# Altium footprint library HARWIN SMD.PcbLib: 13 footprints
Each footprint in its own frame and in the unit in brackets; x right, y up, seen from the top. Pads: shape width x height; smd on the part's side, far side on the other; paste and mask are expansions set on the pad; w line width, h text height; cw(c..) or ccw(c..) is an arc to the next point about the centre after c.
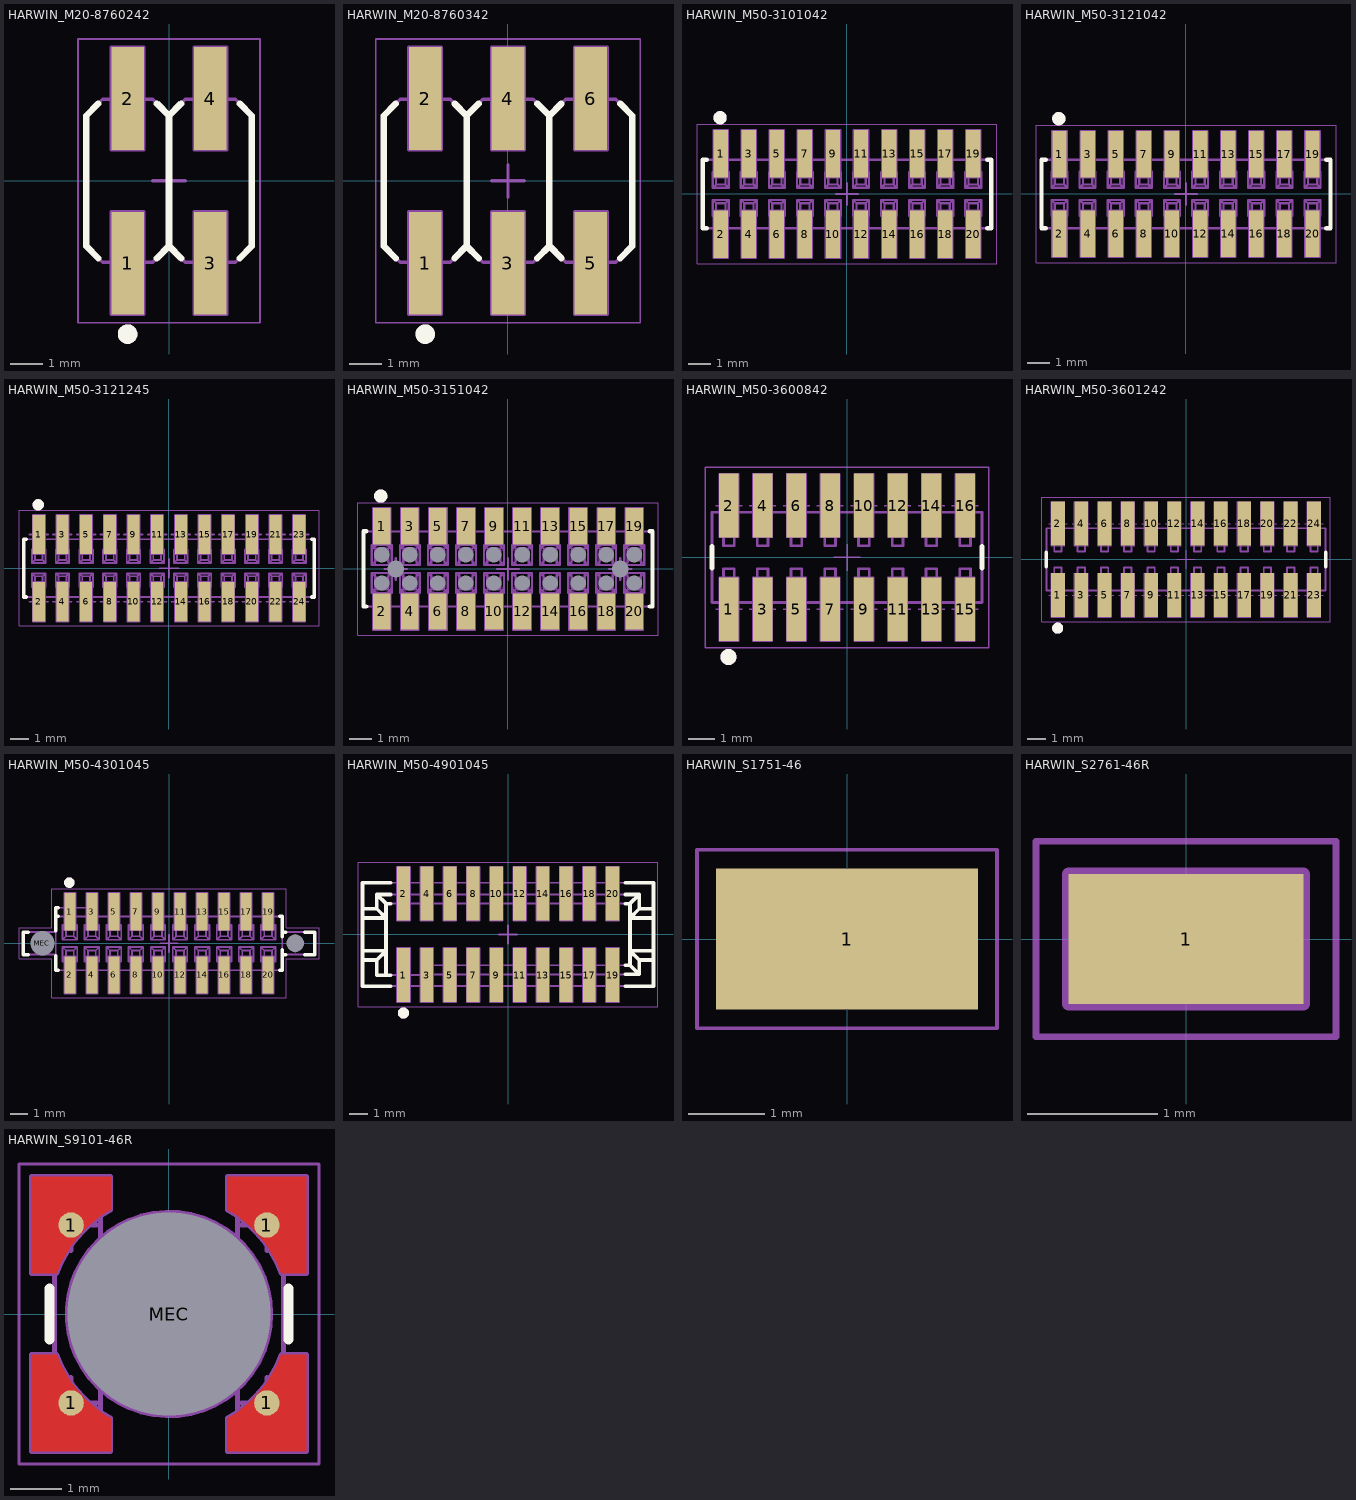
[diagram p0: the footprints below, top view; thin cyan lines are the x and y axes]

## HARWIN_M20-8760242 [mm] "4 Contacts - Pitch 2.54mm - Dual Row SMT Straight Header (Post Lead = 6mm, 3.05mm, Insulator 2.54mm)"
height 10
pads (4):
  rect 1x3.15 smd: 1(-1.27,-2.525) 2(-1.27,2.525) 3(1.27,-2.525) 4(1.27,2.525)
Top Overlay:
  circle w0.3: c-1.27,-4.7 r0.15
  lines w0.2: -2.17,-2.37 -2.54,-2 -2.54,2 -2.17,2.37 ; -0.37,-2.37 0,-2 ; -0.37,2.37 0,2 ; 0.37,-2.37 0,-2 ; 0.37,2.37 0,2 ; 2.17,-2.37 2.54,-2 2.54,2 2.17,2.37 ; 0,-2 0,2
Mechanical 8:
  lines w0.1: -1.77,-2.525 -1.27,-2.525 ; -1.77,2.525 -1.27,2.525 ; -1.27,-3.025 -1.27,-2.525 ; -1.27,-2.025 -1.27,-2.525 ; -1.27,2.025 -1.27,2.525 ; -1.27,3.025 -1.27,2.525 ; -0.77,-2.525 -1.27,-2.525 ; -0.77,2.525 -1.27,2.525 ; -0.5,0 0,0 ; 0,-0.5 0,0 ; 0,0.5 0,0 ; 0.5,0 0,0 ; 0.77,-2.525 1.27,-2.525 ; 0.77,2.525 1.27,2.525 ; 1.27,-3.025 1.27,-2.525 ; 1.27,-2.025 1.27,-2.525 ; 1.27,2.025 1.27,2.525 ; 1.27,3.025 1.27,2.525 ; 1.77,-2.525 1.27,-2.525 ; 1.77,2.525 1.27,2.525 ; -1.77,-4.1 -1.77,-0.95 -0.77,-0.95 -0.77,-4.1 -1.77,-4.1 ; -1.77,0.95 -0.77,0.95 -0.77,4.1 -1.77,4.1 -1.77,0.95 ; 0.77,-4.1 0.77,-0.95 1.77,-0.95 1.77,-4.1 0.77,-4.1 ; 0.77,0.95 1.77,0.95 1.77,4.1 0.77,4.1 0.77,0.95
Mechanical 14:
  circle w0.3: c-1.27,-4.7 r0.15
  lines w0.1: -1.59,-2.5 -1.59,-3.262 ; -1.59,2.5 -1.59,3.262 ; -0.95,-2.5 -0.95,-3.262 ; -0.95,2.5 -0.95,3.262 ; 0.95,-2.5 0.95,-3.262 ; 0.95,2.5 0.95,3.262 ; 1.59,-2.5 1.59,-3.262 ; 1.59,2.5 1.59,3.262 ; -1.59,-3.262 -0.95,-3.262 ; -1.59,-3.262 -1.395,-3.6 -1.145,-3.6 -0.95,-3.262 ; -1.59,3.262 -0.95,3.262 ; -1.59,3.262 -1.395,3.6 -1.145,3.6 -0.95,3.262 ; -1.589,-1.589 -1.395,-1.395 ; -1.589,-1.589 -1.589,-0.951 ; -1.589,-1.589 -0.951,-1.589 ; -1.589,-0.951 -1.395,-1.145 ; -1.589,-0.951 -0.951,-0.951 ; -1.589,0.951 -1.395,1.145 ; -1.589,0.951 -1.589,1.589 ; -1.589,0.951 -0.951,0.951 ; -1.589,1.589 -1.395,1.395 ; -1.589,1.589 -0.951,1.589 ; -1.395,-1.395 -1.395,-1.145 ; -1.395,-1.395 -1.145,-1.395 ; -1.395,-1.145 -1.145,-1.145 ; -1.395,1.145 -1.395,1.395 ; -1.395,1.145 -1.145,1.145 ; -1.395,1.395 -1.145,1.395 ; -1.145,-1.395 -0.951,-1.589 ; -1.145,-1.395 -1.145,-1.145 ; -1.145,-1.145 -0.951,-0.951 ; -1.145,1.145 -0.951,0.951 ; -1.145,1.145 -1.145,1.395 ; -1.145,1.395 -0.951,1.589 ; -0.951,-1.589 -0.951,-0.951 ; -0.951,0.951 -0.951,1.589 ; 0,-2 0,2 ; 0,-2 -0.5,-2.5 -2.04,-2.5 -2.54,-2 -2.54,2 -2.04,2.5 -0.5,2.5 0,2 ; 0,-2 0.5,-2.5 2.04,-2.5 2.54,-2 2.54,2 2.04,2.5 0.5,2.5 0,2 ; 0.95,-3.262 1.59,-3.262 ; 0.95,-3.262 1.145,-3.6 1.395,-3.6 1.59,-3.262 ; 0.95,3.262 1.59,3.262 ; 0.95,3.262 1.145,3.6 1.395,3.6 1.59,3.262 ; 0.951,-1.589 1.145,-1.395 ; 0.951,-1.589 0.951,-0.951 ; 0.951,-1.589 1.589,-1.589 ; 0.951,-0.951 1.145,-1.145 ; 0.951,-0.951 1.589,-0.951 ; 0.951,0.951 1.145,1.145 ; 0.951,0.951 0.951,1.589 ; 0.951,0.951 1.589,0.951 ; 0.951,1.589 1.145,1.395 ; 0.951,1.589 1.589,1.589 ; 1.145,-1.395 1.145,-1.145 ; 1.145,-1.395 1.395,-1.395 ; 1.145,-1.145 1.395,-1.145 ; 1.145,1.145 1.145,1.395 ; 1.145,1.145 1.395,1.145 ; 1.145,1.395 1.395,1.395 ; 1.395,-1.395 1.589,-1.589 ; 1.395,-1.395 1.395,-1.145 ; 1.395,-1.145 1.589,-0.951 ; 1.395,1.145 1.589,0.951 ; 1.395,1.145 1.395,1.395 ; 1.395,1.395 1.589,1.589 ; 1.589,-1.589 1.589,-0.951 ; 1.589,0.951 1.589,1.589
Mechanical 15:
  lines w0.05: -2.79,-4.35 2.79,-4.35 2.79,4.35 -2.79,4.35 -2.79,-4.35
3D body "HARWIN_M20-8760242.stp": height 9.93, standoff 0, extent -2.54,-3.6 2.54,3.6

## HARWIN_M20-8760342 [mm] "6 Contacts - Pitch 2.54mm - Dual Row SMT Straight Header (Post Lead = 6mm, 3.05mm, Insulator 2.54mm)"
height 10
pads (6):
  rect 1x3.15 smd: 1(-2.54,-2.525) 2(-2.54,2.525) 3(0,-2.525) 4(0,2.525) 5(2.54,-2.525) 6(2.54,2.525)
Top Overlay:
  circle w0.3: c-2.54,-4.7 r0.15
  lines w0.2: -3.44,-2.37 -3.81,-2 -3.81,2 -3.44,2.37 ; -1.64,-2.37 -1.27,-2 ; -1.64,2.37 -1.27,2 ; -0.9,-2.37 -1.27,-2 ; -0.9,2.37 -1.27,2 ; 0.9,-2.37 1.27,-2 ; 0.9,2.37 1.27,2 ; 1.64,-2.37 1.27,-2 ; 1.64,2.37 1.27,2 ; 3.44,-2.37 3.81,-2 3.81,2 3.44,2.37 ; -1.27,-2 -1.27,2 ; 1.27,-2 1.27,2
Mechanical 8:
  lines w0.1: -3.04,-2.525 -2.54,-2.525 ; -3.04,2.525 -2.54,2.525 ; -2.54,-3.025 -2.54,-2.525 ; -2.54,-2.025 -2.54,-2.525 ; -2.54,2.025 -2.54,2.525 ; -2.54,3.025 -2.54,2.525 ; -2.04,-2.525 -2.54,-2.525 ; -2.04,2.525 -2.54,2.525 ; -0.5,-2.525 0,-2.525 ; -0.5,0 0,0 ; -0.5,2.525 0,2.525 ; 0,-3.025 0,-2.525 ; 0,-2.025 0,-2.525 ; 0,-0.5 0,0 ; 0,0.5 0,0 ; 0,2.025 0,2.525 ; 0,3.025 0,2.525 ; 0.5,-2.525 0,-2.525 ; 0.5,0 0,0 ; 0.5,2.525 0,2.525 ; 2.04,-2.525 2.54,-2.525 ; 2.04,2.525 2.54,2.525 ; 2.54,-3.025 2.54,-2.525 ; 2.54,-2.025 2.54,-2.525 ; 2.54,2.025 2.54,2.525 ; 2.54,3.025 2.54,2.525 ; 3.04,-2.525 2.54,-2.525 ; 3.04,2.525 2.54,2.525 ; -3.04,-4.1 -3.04,-0.95 -2.04,-0.95 -2.04,-4.1 -3.04,-4.1 ; -3.04,0.95 -2.04,0.95 -2.04,4.1 -3.04,4.1 -3.04,0.95 ; -0.5,-4.1 -0.5,-0.95 0.5,-0.95 0.5,-4.1 -0.5,-4.1 ; -0.5,0.95 0.5,0.95 0.5,4.1 -0.5,4.1 -0.5,0.95 ; 2.04,-4.1 2.04,-0.95 3.04,-0.95 3.04,-4.1 2.04,-4.1 ; 2.04,0.95 3.04,0.95 3.04,4.1 2.04,4.1 2.04,0.95
Mechanical 14:
  circle w0.3: c-2.54,-4.7 r0.15
  lines w0.1: -2.86,-2.5 -2.86,-3.262 ; -2.86,2.5 -2.86,3.262 ; -2.22,-2.5 -2.22,-3.262 ; -2.22,2.5 -2.22,3.262 ; -0.32,-2.5 -0.32,-3.262 ; -0.32,2.5 -0.32,3.262 ; 0.32,-2.5 0.32,-3.262 ; 0.32,2.5 0.32,3.262 ; 2.22,-2.5 2.22,-3.262 ; 2.22,2.5 2.22,3.262 ; 2.86,-2.5 2.86,-3.262 ; 2.86,2.5 2.86,3.262 ; -2.86,-3.262 -2.22,-3.262 ; -2.86,-3.262 -2.665,-3.6 -2.415,-3.6 -2.22,-3.262 ; -2.86,3.262 -2.22,3.262 ; -2.86,3.262 -2.665,3.6 -2.415,3.6 -2.22,3.262 ; -2.859,-1.589 -2.665,-1.395 ; -2.859,-1.589 -2.859,-0.951 ; -2.859,-1.589 -2.221,-1.589 ; -2.859,-0.951 -2.665,-1.145 ; -2.859,-0.951 -2.221,-0.951 ; -2.859,0.951 -2.665,1.145 ; -2.859,0.951 -2.859,1.589 ; -2.859,0.951 -2.221,0.951 ; -2.859,1.589 -2.665,1.395 ; -2.859,1.589 -2.221,1.589 ; -2.665,-1.395 -2.665,-1.145 ; -2.665,-1.395 -2.415,-1.395 ; -2.665,-1.145 -2.415,-1.145 ; -2.665,1.145 -2.665,1.395 ; -2.665,1.145 -2.415,1.145 ; -2.665,1.395 -2.415,1.395 ; -2.415,-1.395 -2.221,-1.589 ; -2.415,-1.395 -2.415,-1.145 ; -2.415,-1.145 -2.221,-0.951 ; -2.415,1.145 -2.221,0.951 ; -2.415,1.145 -2.415,1.395 ; -2.415,1.395 -2.221,1.589 ; -2.221,-1.589 -2.221,-0.951 ; -2.221,0.951 -2.221,1.589 ; -1.27,-2 -1.27,2 ; -1.27,-2 -1.77,-2.5 -3.31,-2.5 -3.81,-2 -3.81,2 -3.31,2.5 -1.77,2.5 -1.27,2 ; -1.27,-2 -0.77,-2.5 0.77,-2.5 1.27,-2 ; -1.27,2 -0.77,2.5 0.77,2.5 1.27,2 ; -0.32,-3.262 0.32,-3.262 ; -0.32,-3.262 -0.125,-3.6 0.125,-3.6 0.32,-3.262 ; -0.32,3.262 0.32,3.262 ; -0.32,3.262 -0.125,3.6 0.125,3.6 0.32,3.262 ; -0.319,-1.589 -0.125,-1.395 ; -0.319,-1.589 -0.319,-0.951 ; -0.319,-1.589 0.319,-1.589 ; -0.319,-0.951 -0.125,-1.145 ; -0.319,-0.951 0.319,-0.951 ; -0.319,0.951 -0.125,1.145 ; -0.319,0.951 -0.319,1.589 ; -0.319,0.951 0.319,0.951 ; -0.319,1.589 -0.125,1.395 ; -0.319,1.589 0.319,1.589 ; -0.125,-1.395 -0.125,-1.145 ; -0.125,-1.395 0.125,-1.395 ; -0.125,-1.145 0.125,-1.145 ; -0.125,1.145 -0.125,1.395 ; -0.125,1.145 0.125,1.145 ; -0.125,1.395 0.125,1.395 ; 0.125,-1.395 0.319,-1.589 ; 0.125,-1.395 0.125,-1.145 ; 0.125,-1.145 0.319,-0.951 ; 0.125,1.145 0.319,0.951 ; 0.125,1.145 0.125,1.395 ; 0.125,1.395 0.319,1.589 ; 0.319,-1.589 0.319,-0.951 ; 0.319,0.951 0.319,1.589 ; 1.27,-2 1.27,2 ; 1.27,-2 1.77,-2.5 3.31,-2.5 3.81,-2 3.81,2 3.31,2.5 1.77,2.5 1.27,2 ; 2.22,-3.262 2.86,-3.262 ; 2.22,-3.262 2.415,-3.6 2.665,-3.6 2.86,-3.262 ; 2.22,3.262 2.86,3.262 ; 2.22,3.262 2.415,3.6 2.665,3.6 2.86,3.262 ; 2.221,-1.589 2.415,-1.395 ; 2.221,-1.589 2.221,-0.951 ; 2.221,-1.589 2.859,-1.589 ; 2.221,-0.951 2.415,-1.145 ; 2.221,-0.951 2.859,-0.951 ; 2.221,0.951 2.415,1.145 ; 2.221,0.951 2.221,1.589 ; 2.221,0.951 2.859,0.951 ; 2.221,1.589 2.415,1.395 ; 2.221,1.589 2.859,1.589 ; 2.415,-1.395 2.415,-1.145 ; 2.415,-1.395 2.665,-1.395 ; 2.415,-1.145 2.665,-1.145 ; 2.415,1.145 2.415,1.395 ; 2.415,1.145 2.665,1.145 ; 2.415,1.395 2.665,1.395 ; 2.665,-1.395 2.859,-1.589 ; 2.665,-1.395 2.665,-1.145 ; 2.665,-1.145 2.859,-0.951 ; 2.665,1.145 2.859,0.951 ; 2.665,1.145 2.665,1.395 ; 2.665,1.395 2.859,1.589 ; 2.859,-1.589 2.859,-0.951 ; 2.859,0.951 2.859,1.589
Mechanical 15:
  lines w0.05: -4.06,-4.35 4.06,-4.35 4.06,4.35 -4.06,4.35 -4.06,-4.35
3D body "HARWIN_M20-8760342.stp": height 9.93, standoff 0, extent -3.81,-3.6 3.81,3.6

## HARWIN_M50-3101042 [mm] "20 Contacts - Pitch 1.27mm - Dual Row SMT Vertical Socket"
height 4.85
pads (20):
  rect 0.65x2.15 smd: 1(-5.715,1.825) 2(-5.715,-1.825) 3(-4.445,1.825) 4(-4.445,-1.825) 5(-3.175,1.825) 6(-3.175,-1.825) 7(-1.905,1.825) 8(-1.905,-1.825) 9(-0.635,1.825) 10(-0.635,-1.825) 11(0.635,1.825) 12(0.635,-1.825) 13(1.905,1.825) 14(1.905,-1.825) 15(3.175,1.825) 16(3.175,-1.825) 17(4.445,1.825) 18(4.445,-1.825) 19(5.715,1.825) 20(5.715,-1.825)
Top Overlay:
  circle w0.3: c-5.745,3.45 r0.15
  lines w0.2: -6.34,-1.55 -6.525,-1.55 -6.525,1.55 -6.34,1.55 ; 6.34,-1.55 6.525,-1.55 6.525,1.55 6.34,1.55
Mechanical 8:
  lines w0.1: -0.5,0 0,0 ; 0,-0.5 0,0 ; 0,0.5 0,0 ; 0.5,0 0,0 ; -6.04,-2.9 -5.715,-1.825 -5.39,-2.9 ; -6.04,-2.9 -5.39,-2.9 ; -6.04,-2.9 -6.04,-0.75 -5.39,-0.75 -5.39,-2.9 ; -6.04,2.9 -5.715,1.825 -5.39,2.9 ; -6.04,2.9 -6.04,0.75 -5.39,0.75 -5.39,2.9 ; -6.04,2.9 -5.39,2.9 ; -4.77,-2.9 -4.445,-1.825 -4.12,-2.9 ; -4.77,-2.9 -4.12,-2.9 ; -4.77,-2.9 -4.77,-0.75 -4.12,-0.75 -4.12,-2.9 ; -4.77,2.9 -4.445,1.825 -4.12,2.9 ; -4.77,2.9 -4.77,0.75 -4.12,0.75 -4.12,2.9 ; -4.77,2.9 -4.12,2.9 ; -3.5,-2.9 -3.175,-1.825 -2.85,-2.9 ; -3.5,-2.9 -2.85,-2.9 ; -3.5,-2.9 -3.5,-0.75 -2.85,-0.75 -2.85,-2.9 ; -3.5,2.9 -3.175,1.825 -2.85,2.9 ; -3.5,2.9 -3.5,0.75 -2.85,0.75 -2.85,2.9 ; -3.5,2.9 -2.85,2.9 ; -2.23,-2.9 -1.905,-1.825 -1.58,-2.9 ; -2.23,-2.9 -1.58,-2.9 ; -2.23,-2.9 -2.23,-0.75 -1.58,-0.75 -1.58,-2.9 ; -2.23,2.9 -1.905,1.825 -1.58,2.9 ; -2.23,2.9 -2.23,0.75 -1.58,0.75 -1.58,2.9 ; -2.23,2.9 -1.58,2.9 ; -0.96,-2.9 -0.635,-1.825 -0.31,-2.9 ; -0.96,-2.9 -0.31,-2.9 ; -0.96,-2.9 -0.96,-0.75 -0.31,-0.75 -0.31,-2.9 ; -0.96,2.9 -0.635,1.825 -0.31,2.9 ; -0.96,2.9 -0.96,0.75 -0.31,0.75 -0.31,2.9 ; -0.96,2.9 -0.31,2.9 ; 0.31,-2.9 0.635,-1.825 0.96,-2.9 ; 0.31,-2.9 0.96,-2.9 ; 0.31,-2.9 0.31,-0.75 0.96,-0.75 0.96,-2.9 ; 0.31,2.9 0.635,1.825 0.96,2.9 ; 0.31,2.9 0.31,0.75 0.96,0.75 0.96,2.9 ; 0.31,2.9 0.96,2.9 ; 1.58,-2.9 1.905,-1.825 2.23,-2.9 ; 1.58,-2.9 2.23,-2.9 ; 1.58,-2.9 1.58,-0.75 2.23,-0.75 2.23,-2.9 ; 1.58,2.9 1.905,1.825 2.23,2.9 ; 1.58,2.9 1.58,0.75 2.23,0.75 2.23,2.9 ; 1.58,2.9 2.23,2.9 ; 2.85,-2.9 3.175,-1.825 3.5,-2.9 ; 2.85,-2.9 3.5,-2.9 ; 2.85,-2.9 2.85,-0.75 3.5,-0.75 3.5,-2.9 ; 2.85,2.9 3.175,1.825 3.5,2.9 ; 2.85,2.9 2.85,0.75 3.5,0.75 3.5,2.9 ; 2.85,2.9 3.5,2.9 ; 4.12,-2.9 4.445,-1.825 4.77,-2.9 ; 4.12,-2.9 4.77,-2.9 ; 4.12,-2.9 4.12,-0.75 4.77,-0.75 4.77,-2.9 ; 4.12,2.9 4.445,1.825 4.77,2.9 ; 4.12,2.9 4.12,0.75 4.77,0.75 4.77,2.9 ; 4.12,2.9 4.77,2.9 ; 5.39,-2.9 5.715,-1.825 6.04,-2.9 ; 5.39,-2.9 6.04,-2.9 ; 5.39,-2.9 5.39,-0.75 6.04,-0.75 6.04,-2.9 ; 5.39,2.9 5.715,1.825 6.04,2.9 ; 5.39,2.9 5.39,0.75 6.04,0.75 6.04,2.9 ; 5.39,2.9 6.04,2.9
Mechanical 14:
  drawing of 245 lines, arcs and shapes, not listed
Mechanical 15:
  lines w0.05: -6.775,-3.15 6.775,-3.15 6.775,3.15 -6.775,3.15 -6.775,-3.15
3D body "HARWIN_M50-3101042.stp": height 4.6, standoff 0, extent -6.525,-2.522 6.525,2.523

## HARWIN_M50-3121042 [mm] "20 Contacts - Pitch 1.27mm - Dual Row SMT Vertical Socket"
height 3.8
pads (20):
  rect 0.65x2.1 smd: 1(-5.715,1.8) 2(-5.715,-1.8) 3(-4.445,1.8) 4(-4.445,-1.8) 5(-3.175,1.8) 6(-3.175,-1.8) 7(-1.905,1.8) 8(-1.905,-1.8) 9(-0.635,1.8) 10(-0.635,-1.8) 11(0.635,1.8) 12(0.635,-1.8) 13(1.905,1.8) 14(1.905,-1.8) 15(3.175,1.8) 16(3.175,-1.8) 17(4.445,1.8) 18(4.445,-1.8) 19(5.715,1.8) 20(5.715,-1.8)
Top Overlay:
  circle w0.3: c-5.745,3.4 r0.15
  lines w0.2: -6.34,-1.55 -6.525,-1.55 -6.525,1.55 -6.34,1.55 ; 6.34,-1.55 6.525,-1.55 6.525,1.55 6.34,1.55
Mechanical 8:
  lines w0.1: -0.5,0 0,0 ; 0,-0.5 0,0 ; 0,0.5 0,0 ; 0.5,0 0,0 ; -6.04,-2.85 -6.04,-0.75 -5.39,-0.75 -5.39,-2.85 ; -6.04,-2.85 -5.39,-2.85 ; -6.04,-2.85 -5.715,-1.8 -5.39,-2.85 ; -6.04,2.85 -5.39,2.85 ; -6.04,2.85 -6.04,0.75 -5.39,0.75 -5.39,2.85 ; -6.04,2.85 -5.715,1.8 -5.39,2.85 ; -4.77,-2.85 -4.77,-0.75 -4.12,-0.75 -4.12,-2.85 ; -4.77,-2.85 -4.12,-2.85 ; -4.77,-2.85 -4.445,-1.8 -4.12,-2.85 ; -4.77,2.85 -4.12,2.85 ; -4.77,2.85 -4.77,0.75 -4.12,0.75 -4.12,2.85 ; -4.77,2.85 -4.445,1.8 -4.12,2.85 ; -3.5,-2.85 -3.5,-0.75 -2.85,-0.75 -2.85,-2.85 ; -3.5,-2.85 -2.85,-2.85 ; -3.5,-2.85 -3.175,-1.8 -2.85,-2.85 ; -3.5,2.85 -2.85,2.85 ; -3.5,2.85 -3.5,0.75 -2.85,0.75 -2.85,2.85 ; -3.5,2.85 -3.175,1.8 -2.85,2.85 ; -2.23,-2.85 -2.23,-0.75 -1.58,-0.75 -1.58,-2.85 ; -2.23,-2.85 -1.58,-2.85 ; -2.23,-2.85 -1.905,-1.8 -1.58,-2.85 ; -2.23,2.85 -1.58,2.85 ; -2.23,2.85 -2.23,0.75 -1.58,0.75 -1.58,2.85 ; -2.23,2.85 -1.905,1.8 -1.58,2.85 ; -0.96,-2.85 -0.96,-0.75 -0.31,-0.75 -0.31,-2.85 ; -0.96,-2.85 -0.31,-2.85 ; -0.96,-2.85 -0.635,-1.8 -0.31,-2.85 ; -0.96,2.85 -0.31,2.85 ; -0.96,2.85 -0.96,0.75 -0.31,0.75 -0.31,2.85 ; -0.96,2.85 -0.635,1.8 -0.31,2.85 ; 0.31,-2.85 0.31,-0.75 0.96,-0.75 0.96,-2.85 ; 0.31,-2.85 0.96,-2.85 ; 0.31,-2.85 0.635,-1.8 0.96,-2.85 ; 0.31,2.85 0.96,2.85 ; 0.31,2.85 0.31,0.75 0.96,0.75 0.96,2.85 ; 0.31,2.85 0.635,1.8 0.96,2.85 ; 1.58,-2.85 1.58,-0.75 2.23,-0.75 2.23,-2.85 ; 1.58,-2.85 2.23,-2.85 ; 1.58,-2.85 1.905,-1.8 2.23,-2.85 ; 1.58,2.85 2.23,2.85 ; 1.58,2.85 1.58,0.75 2.23,0.75 2.23,2.85 ; 1.58,2.85 1.905,1.8 2.23,2.85 ; 2.85,-2.85 2.85,-0.75 3.5,-0.75 3.5,-2.85 ; 2.85,-2.85 3.5,-2.85 ; 2.85,-2.85 3.175,-1.8 3.5,-2.85 ; 2.85,2.85 3.5,2.85 ; 2.85,2.85 2.85,0.75 3.5,0.75 3.5,2.85 ; 2.85,2.85 3.175,1.8 3.5,2.85 ; 4.12,-2.85 4.12,-0.75 4.77,-0.75 4.77,-2.85 ; 4.12,-2.85 4.77,-2.85 ; 4.12,-2.85 4.445,-1.8 4.77,-2.85 ; 4.12,2.85 4.77,2.85 ; 4.12,2.85 4.12,0.75 4.77,0.75 4.77,2.85 ; 4.12,2.85 4.445,1.8 4.77,2.85 ; 5.39,-2.85 5.39,-0.75 6.04,-0.75 6.04,-2.85 ; 5.39,-2.85 6.04,-2.85 ; 5.39,-2.85 5.715,-1.8 6.04,-2.85 ; 5.39,2.85 6.04,2.85 ; 5.39,2.85 5.39,0.75 6.04,0.75 6.04,2.85 ; 5.39,2.85 5.715,1.8 6.04,2.85
Mechanical 14:
  drawing of 245 lines, arcs and shapes, not listed
Mechanical 15:
  lines w0.05: -6.775,-3.1 6.775,-3.1 6.775,3.1 -6.775,3.1 -6.775,-3.1
3D body "HARWIN_M50-3121042.stp": height 3.6, standoff 0, extent -6.525,-2.25 6.525,2.25

## HARWIN_M50-3121245 [mm] "24 Contacts - Pitch 1.27mm - Dual Row SMT Vertical Socket"
height 3.8
pads (24):
  rect 0.65x2.1 smd: 1(-6.985,1.8) 2(-6.985,-1.8) 3(-5.715,1.8) 4(-5.715,-1.8) 5(-4.445,1.8) 6(-4.445,-1.8) 7(-3.175,1.8) 8(-3.175,-1.8) 9(-1.905,1.8) 10(-1.905,-1.8) 11(-0.635,1.8) 12(-0.635,-1.8) 13(0.635,1.8) 14(0.635,-1.8) 15(1.905,1.8) 16(1.905,-1.8) 17(3.175,1.8) 18(3.175,-1.8) 19(4.445,1.8) 20(4.445,-1.8) 21(5.715,1.8) 22(5.715,-1.8) 23(6.985,1.8) 24(6.985,-1.8)
Top Overlay:
  circle w0.3: c-7.015,3.4 r0.15
  lines w0.2: -7.66,-1.55 -7.795,-1.55 -7.795,1.55 -7.66,1.55 ; 7.66,-1.55 7.795,-1.55 7.795,1.55 7.66,1.55
Mechanical 8:
  drawing of 196 lines, arcs and shapes, not listed
Mechanical 14:
  drawing of 293 lines, arcs and shapes, not listed
Mechanical 15:
  lines w0.05: -8.045,-3.1 8.045,-3.1 8.045,3.1 -8.045,3.1 -8.045,-3.1
3D body "HARWIN_M50-3121245.stp": height 3.6, standoff 0, extent -7.795,-2.25 7.795,2.25

## HARWIN_M50-3151042 [mm] "20 Contacts - Pitch 1.27mm - Dual entry (Top or Bottom Entry), 2.2mm Height Dual Row SMT Socket  with Posts"
height 2.35
pads (42):
  rect 0.8x1.65 smd: 1(-5.715,1.925) 2(-5.715,-1.925) 3(-4.445,1.925) 4(-4.445,-1.925) 5(-3.175,1.925) 6(-3.175,-1.925) 7(-1.905,1.925) 8(-1.905,-1.925) 9(-0.635,1.925) 10(-0.635,-1.925) 11(0.635,1.925) 12(0.635,-1.925) 13(1.905,1.925) 14(1.905,-1.925) 15(3.175,1.925) 16(3.175,-1.925) 17(4.445,1.925) 18(4.445,-1.925) 19(5.715,1.925) 20(5.715,-1.925)
  round 0.5 hole 0.7 unplated mask+0.1: MECH(-5.715,-0.635) MECH(-5.715,0.635) MECH(-4.445,-0.635) MECH(-4.445,0.635) MECH(-3.175,-0.635) MECH(-3.175,0.635) MECH(-1.905,-0.635) MECH(-1.905,0.635) MECH(-0.635,-0.635) MECH(-0.635,0.635) MECH(0.635,-0.635) MECH(0.635,0.635) MECH(1.905,-0.635) MECH(1.905,0.635) MECH(3.175,-0.635) MECH(3.175,0.635) MECH(4.445,-0.635) MECH(4.445,0.635) MECH(5.715,-0.635) MECH(5.715,0.635)
  round 0.5 hole 0.75 unplated mask+0.125: MECH(-5.08,0) MECH(5.08,0)
Top Overlay:
  circle w0.3: c-5.76,3.3 r0.15
  lines w0.2: -6.415,-1.7 -6.54,-1.7 -6.54,1.7 -6.415,1.7 ; 6.415,-1.7 6.54,-1.7 6.54,1.7 6.415,1.7
Mechanical 8:
  drawing of 212 lines, arcs and shapes, not listed
Mechanical 14:
  drawing of 225 lines, arcs and shapes, not listed
Mechanical 15:
  lines w0.05: -6.79,-3 6.79,-3 6.79,3 -6.79,3 -6.79,-3
3D body "HARWIN_M50-3151042.stp": height 2.2, standoff -0.6, extent -6.54,-2.25 6.54,2.25

## HARWIN_M50-3600842 [mm] "16 Contacts - Pitch 1.27mm - Dual Row SMT Vertical Pin Header"
height 5.13
pads (16):
  rect 0.74x2.4 smd: 1(-4.445,-1.95) 2(-4.445,1.95) 3(-3.175,-1.95) 4(-3.175,1.95) 5(-1.905,-1.95) 6(-1.905,1.95) 7(-0.635,-1.95) 8(-0.635,1.95) 9(0.635,-1.95) 10(0.635,1.95) 11(1.905,-1.95) 12(1.905,1.95) 13(3.175,-1.95) 14(3.175,1.95) 15(4.445,-1.95) 16(4.445,1.95)
Top Overlay:
  circle w0.3: c-4.46,-3.75 r0.15
  lines w0.2: -5.08,-0.4 -5.08,0.4 ; 5.08,-0.4 5.08,0.4
Mechanical 8:
  lines w0.05: -4.945,-1.95 -4.445,-1.95 ; -4.945,1.95 -4.445,1.95 ; -4.445,-2.45 -4.445,-1.95 ; -4.445,-1.45 -4.445,-1.95 ; -4.445,1.45 -4.445,1.95 ; -4.445,2.45 -4.445,1.95 ; -3.945,-1.95 -4.445,-1.95 ; -3.945,1.95 -4.445,1.95 ; -3.675,-1.95 -3.175,-1.95 ; -3.675,1.95 -3.175,1.95 ; -3.175,-2.45 -3.175,-1.95 ; -3.175,-1.45 -3.175,-1.95 ; -3.175,1.45 -3.175,1.95 ; -3.175,2.45 -3.175,1.95 ; -2.675,-1.95 -3.175,-1.95 ; -2.675,1.95 -3.175,1.95 ; -2.405,-1.95 -1.905,-1.95 ; -2.405,1.95 -1.905,1.95 ; -1.905,-2.45 -1.905,-1.95 ; -1.905,-1.45 -1.905,-1.95 ; -1.905,1.45 -1.905,1.95 ; -1.905,2.45 -1.905,1.95 ; -1.405,-1.95 -1.905,-1.95 ; -1.405,1.95 -1.905,1.95 ; -1.135,-1.95 -0.635,-1.95 ; -1.135,1.95 -0.635,1.95 ; -0.635,-2.45 -0.635,-1.95 ; -0.635,-1.45 -0.635,-1.95 ; -0.635,1.45 -0.635,1.95 ; -0.635,2.45 -0.635,1.95 ; -0.5,0 0,0 ; -0.135,-1.95 -0.635,-1.95 ; -0.135,1.95 -0.635,1.95 ; 0,-0.5 0,0 ; 0,0.5 0,0 ; 0.135,-1.95 0.635,-1.95 ; 0.135,1.95 0.635,1.95 ; 0.5,0 0,0 ; 0.635,-2.45 0.635,-1.95 ; 0.635,-1.45 0.635,-1.95 ; 0.635,1.45 0.635,1.95 ; 0.635,2.45 0.635,1.95 ; 1.135,-1.95 0.635,-1.95 ; 1.135,1.95 0.635,1.95 ; 1.405,-1.95 1.905,-1.95 ; 1.405,1.95 1.905,1.95 ; 1.905,-2.45 1.905,-1.95 ; 1.905,-1.45 1.905,-1.95 ; 1.905,1.45 1.905,1.95 ; 1.905,2.45 1.905,1.95 ; 2.405,-1.95 1.905,-1.95 ; 2.405,1.95 1.905,1.95 ; 2.675,-1.95 3.175,-1.95 ; 2.675,1.95 3.175,1.95 ; 3.175,-2.45 3.175,-1.95 ; 3.175,-1.45 3.175,-1.95 ; 3.175,1.45 3.175,1.95 ; 3.175,2.45 3.175,1.95 ; 3.675,-1.95 3.175,-1.95 ; 3.675,1.95 3.175,1.95 ; 3.945,-1.95 4.445,-1.95 ; 3.945,1.95 4.445,1.95 ; 4.445,-2.45 4.445,-1.95 ; 4.445,-1.45 4.445,-1.95 ; 4.445,1.45 4.445,1.95 ; 4.445,2.45 4.445,1.95 ; 4.945,-1.95 4.445,-1.95 ; 4.945,1.95 4.445,1.95 ; -4.815,-3.15 -4.815,-0.75 -4.075,-0.75 -4.075,-3.15 -4.815,-3.15 ; -4.815,0.75 -4.815,3.15 -4.075,3.15 -4.075,0.75 -4.815,0.75 ; -3.545,-3.15 -3.545,-0.75 -2.805,-0.75 -2.805,-3.15 -3.545,-3.15 ; -3.545,0.75 -3.545,3.15 -2.805,3.15 -2.805,0.75 -3.545,0.75 ; -2.275,-3.15 -2.275,-0.75 -1.535,-0.75 -1.535,-3.15 -2.275,-3.15 ; -2.275,0.75 -2.275,3.15 -1.535,3.15 -1.535,0.75 -2.275,0.75 ; -1.005,-3.15 -1.005,-0.75 -0.265,-0.75 -0.265,-3.15 -1.005,-3.15 ; -1.005,0.75 -1.005,3.15 -0.265,3.15 -0.265,0.75 -1.005,0.75 ; 0.265,-3.15 0.265,-0.75 1.005,-0.75 1.005,-3.15 0.265,-3.15 ; 0.265,0.75 0.265,3.15 1.005,3.15 1.005,0.75 0.265,0.75 ; 1.535,-3.15 1.535,-0.75 2.275,-0.75 2.275,-3.15 1.535,-3.15 ; 1.535,0.75 1.535,3.15 2.275,3.15 2.275,0.75 1.535,0.75 ; 2.805,-3.15 2.805,-0.75 3.545,-0.75 3.545,-3.15 2.805,-3.15 ; 2.805,0.75 2.805,3.15 3.545,3.15 3.545,0.75 2.805,0.75 ; 4.075,-3.15 4.075,-0.75 4.815,-0.75 4.815,-3.15 4.075,-3.15 ; 4.075,0.75 4.075,3.15 4.815,3.15 4.815,0.75 4.075,0.75
Mechanical 14:
  circle w0.3: c-4.46,-3.75 r0.15
  lines w0.1: -5.08,-1.7 5.08,-1.7 5.08,1.7 -5.08,1.7 -5.08,-1.7 ; -4.645,-0.835 -4.245,-0.835 -4.245,-0.435 -4.645,-0.435 -4.645,-0.835 ; -4.645,0.435 -4.245,0.435 -4.245,0.835 -4.645,0.835 -4.645,0.435 ; -3.375,-0.835 -2.975,-0.835 -2.975,-0.435 -3.375,-0.435 -3.375,-0.835 ; -3.375,0.435 -2.975,0.435 -2.975,0.835 -3.375,0.835 -3.375,0.435 ; -2.105,-0.835 -1.705,-0.835 -1.705,-0.435 -2.105,-0.435 -2.105,-0.835 ; -2.105,0.435 -1.705,0.435 -1.705,0.835 -2.105,0.835 -2.105,0.435 ; -0.835,-0.835 -0.435,-0.835 -0.435,-0.435 -0.835,-0.435 -0.835,-0.835 ; -0.835,0.435 -0.435,0.435 -0.435,0.835 -0.835,0.835 -0.835,0.435 ; 0.435,-0.835 0.835,-0.835 0.835,-0.435 0.435,-0.435 0.435,-0.835 ; 0.435,0.435 0.835,0.435 0.835,0.835 0.435,0.835 0.435,0.435 ; 1.705,-0.835 2.105,-0.835 2.105,-0.435 1.705,-0.435 1.705,-0.835 ; 1.705,0.435 2.105,0.435 2.105,0.835 1.705,0.835 1.705,0.435 ; 2.975,-0.835 3.375,-0.835 3.375,-0.435 2.975,-0.435 2.975,-0.835 ; 2.975,0.435 3.375,0.435 3.375,0.835 2.975,0.835 2.975,0.435 ; 4.245,-0.835 4.645,-0.835 4.645,-0.435 4.245,-0.435 4.245,-0.835 ; 4.245,0.435 4.645,0.435 4.645,0.835 4.245,0.835 4.245,0.435
Mechanical 15:
  lines w0.05: -5.33,-3.4 5.33,-3.4 5.33,3.4 -5.33,3.4 -5.33,-3.4
3D body "HARWIN_M50-3600842.stp": height 4.68, standoff 0, extent -5.08,-2.75 5.08,2.75

## HARWIN_M50-3601242 [mm] "24 Contacts - Pitch 1.27mm - Dual Row SMT Vertical Pin Header"
height 5.13
pads (24):
  rect 0.74x2.4 smd: 1(-6.985,-1.95) 2(-6.985,1.95) 3(-5.715,-1.95) 4(-5.715,1.95) 5(-4.445,-1.95) 6(-4.445,1.95) 7(-3.175,-1.95) 8(-3.175,1.95) 9(-1.905,-1.95) 10(-1.905,1.95) 11(-0.635,-1.95) 12(-0.635,1.95) 13(0.635,-1.95) 14(0.635,1.95) 15(1.905,-1.95) 16(1.905,1.95) 17(3.175,-1.95) 18(3.175,1.95) 19(4.445,-1.95) 20(4.445,1.95) 21(5.715,-1.95) 22(5.715,1.95) 23(6.985,-1.95) 24(6.985,1.95)
Top Overlay:
  circle w0.3: c-7,-3.75 r0.15
  lines w0.2: -7.62,-0.4 -7.62,0.4 ; 7.62,-0.4 7.62,0.4
Mechanical 8:
  drawing of 196 lines, arcs and shapes, not listed
Mechanical 14:
  circle w0.3: c-7,-3.75 r0.15
  lines w0.1: -7.62,-1.7 -7.62,1.7 7.62,1.7 7.62,-1.7 -7.62,-1.7 ; -7.185,-0.835 -7.185,-0.435 -6.785,-0.435 -6.785,-0.835 -7.185,-0.835 ; -7.185,0.435 -7.185,0.835 -6.785,0.835 -6.785,0.435 -7.185,0.435 ; -5.915,-0.835 -5.915,-0.435 -5.515,-0.435 -5.515,-0.835 -5.915,-0.835 ; -5.915,0.435 -5.915,0.835 -5.515,0.835 -5.515,0.435 -5.915,0.435 ; -4.645,-0.835 -4.645,-0.435 -4.245,-0.435 -4.245,-0.835 -4.645,-0.835 ; -4.645,0.435 -4.645,0.835 -4.245,0.835 -4.245,0.435 -4.645,0.435 ; -3.375,-0.835 -3.375,-0.435 -2.975,-0.435 -2.975,-0.835 -3.375,-0.835 ; -3.375,0.435 -3.375,0.835 -2.975,0.835 -2.975,0.435 -3.375,0.435 ; -2.105,-0.835 -2.105,-0.435 -1.705,-0.435 -1.705,-0.835 -2.105,-0.835 ; -2.105,0.435 -2.105,0.835 -1.705,0.835 -1.705,0.435 -2.105,0.435 ; -0.835,-0.835 -0.835,-0.435 -0.435,-0.435 -0.435,-0.835 -0.835,-0.835 ; -0.835,0.435 -0.835,0.835 -0.435,0.835 -0.435,0.435 -0.835,0.435 ; 0.435,-0.835 0.435,-0.435 0.835,-0.435 0.835,-0.835 0.435,-0.835 ; 0.435,0.435 0.435,0.835 0.835,0.835 0.835,0.435 0.435,0.435 ; 1.705,-0.835 1.705,-0.435 2.105,-0.435 2.105,-0.835 1.705,-0.835 ; 1.705,0.435 1.705,0.835 2.105,0.835 2.105,0.435 1.705,0.435 ; 2.975,-0.835 2.975,-0.435 3.375,-0.435 3.375,-0.835 2.975,-0.835 ; 2.975,0.435 2.975,0.835 3.375,0.835 3.375,0.435 2.975,0.435 ; 4.245,-0.835 4.245,-0.435 4.645,-0.435 4.645,-0.835 4.245,-0.835 ; 4.245,0.435 4.245,0.835 4.645,0.835 4.645,0.435 4.245,0.435 ; 5.515,-0.835 5.515,-0.435 5.915,-0.435 5.915,-0.835 5.515,-0.835 ; 5.515,0.435 5.515,0.835 5.915,0.835 5.915,0.435 5.515,0.435 ; 6.785,-0.835 6.785,-0.435 7.185,-0.435 7.185,-0.835 6.785,-0.835 ; 6.785,0.435 6.785,0.835 7.185,0.835 7.185,0.435 6.785,0.435
Mechanical 15:
  lines w0.05: -7.87,-3.4 -7.87,3.4 7.87,3.4 7.87,-3.4 -7.87,-3.4
3D body "HARWIN_M50-3601242.stp": height 4.68, standoff 0, extent -7.62,-2.75 7.62,2.75

## HARWIN_M50-4301045 [mm] "20 Contacts - Pitch 1.27mm - Dual Row SMT Polarized Straight Socket"
height 4.85
pads (22):
  rect 0.65x2.15 smd: 1(-5.715,1.825) 2(-5.715,-1.825) 3(-4.445,1.825) 4(-4.445,-1.825) 5(-3.175,1.825) 6(-3.175,-1.825) 7(-1.905,1.825) 8(-1.905,-1.825) 9(-0.635,1.825) 10(-0.635,-1.825) 11(0.635,1.825) 12(0.635,-1.825) 13(1.905,1.825) 14(1.905,-1.825) 15(3.175,1.825) 16(3.175,-1.825) 17(4.445,1.825) 18(4.445,-1.825) 19(5.715,1.825) 20(5.715,-1.825)
  round 1 hole 1.4 unplated mask+0.2: MEC(-7.295,0)
  round 0.5 hole 1 unplated mask+0.25: MEC(7.285,0)
Top Overlay:
  circle w0.3: c-5.75,3.5 r0.15
  lines w0.2: -8.12,-0.65 -8.4,-0.65 -8.4,0.65 -8.12,0.65 ; -6.525,-0.714 -6.525,-1.55 -6.39,-1.55 ; -6.525,0.714 -6.525,2.05 -6.39,2.05 ; -6.525,1.55 -6.39,1.55 ; 6.39,-1.55 6.525,-1.55 6.525,-0.381 ; 6.39,1.55 6.525,1.55 6.525,0.381 ; 6.525,-0.65 6.737,-0.65 ; 6.525,0.65 6.737,0.65 ; 7.833,-0.65 8.4,-0.65 8.4,0.65 7.833,0.65
Mechanical 8:
  lines w0.1: -7.795,0 -7.295,0 ; -7.295,-0.5 -7.295,0 ; -7.295,0.5 -7.295,0 ; -6.795,0 -7.295,0 ; -0.5,0 0,0 ; 0,-0.5 0,0 ; 0,0.5 0,0 ; 0.5,0 0,0 ; 6.785,0 7.285,0 ; 7.285,-0.5 7.285,0 ; 7.285,0.5 7.285,0 ; 7.785,0 7.285,0 ; -6.04,-2.9 -6.04,-0.75 -5.39,-0.75 -5.39,-2.9 ; -6.04,-2.9 -5.39,-2.9 ; -6.04,-2.9 -5.715,-1.825 -5.39,-2.9 ; -6.04,2.9 -5.39,2.9 ; -6.04,2.9 -6.04,0.75 -5.39,0.75 -5.39,2.9 ; -6.04,2.9 -5.715,1.825 -5.39,2.9 ; -4.77,-2.9 -4.77,-0.75 -4.12,-0.75 -4.12,-2.9 ; -4.77,-2.9 -4.12,-2.9 ; -4.77,-2.9 -4.445,-1.825 -4.12,-2.9 ; -4.77,2.9 -4.12,2.9 ; -4.77,2.9 -4.77,0.75 -4.12,0.75 -4.12,2.9 ; -4.77,2.9 -4.445,1.825 -4.12,2.9 ; -3.5,-2.9 -3.5,-0.75 -2.85,-0.75 -2.85,-2.9 ; -3.5,-2.9 -2.85,-2.9 ; -3.5,-2.9 -3.175,-1.825 -2.85,-2.9 ; -3.5,2.9 -2.85,2.9 ; -3.5,2.9 -3.5,0.75 -2.85,0.75 -2.85,2.9 ; -3.5,2.9 -3.175,1.825 -2.85,2.9 ; -2.23,-2.9 -2.23,-0.75 -1.58,-0.75 -1.58,-2.9 ; -2.23,-2.9 -1.58,-2.9 ; -2.23,-2.9 -1.905,-1.825 -1.58,-2.9 ; -2.23,2.9 -1.58,2.9 ; -2.23,2.9 -2.23,0.75 -1.58,0.75 -1.58,2.9 ; -2.23,2.9 -1.905,1.825 -1.58,2.9 ; -0.96,-2.9 -0.96,-0.75 -0.31,-0.75 -0.31,-2.9 ; -0.96,-2.9 -0.31,-2.9 ; -0.96,-2.9 -0.635,-1.825 -0.31,-2.9 ; -0.96,2.9 -0.31,2.9 ; -0.96,2.9 -0.96,0.75 -0.31,0.75 -0.31,2.9 ; -0.96,2.9 -0.635,1.825 -0.31,2.9 ; 0.31,-2.9 0.31,-0.75 0.96,-0.75 0.96,-2.9 ; 0.31,-2.9 0.96,-2.9 ; 0.31,-2.9 0.635,-1.825 0.96,-2.9 ; 0.31,2.9 0.96,2.9 ; 0.31,2.9 0.31,0.75 0.96,0.75 0.96,2.9 ; 0.31,2.9 0.635,1.825 0.96,2.9 ; 1.58,-2.9 1.58,-0.75 2.23,-0.75 2.23,-2.9 ; 1.58,-2.9 2.23,-2.9 ; 1.58,-2.9 1.905,-1.825 2.23,-2.9 ; 1.58,2.9 2.23,2.9 ; 1.58,2.9 1.58,0.75 2.23,0.75 2.23,2.9 ; 1.58,2.9 1.905,1.825 2.23,2.9 ; 2.85,-2.9 2.85,-0.75 3.5,-0.75 3.5,-2.9 ; 2.85,-2.9 3.5,-2.9 ; 2.85,-2.9 3.175,-1.825 3.5,-2.9 ; 2.85,2.9 3.5,2.9 ; 2.85,2.9 2.85,0.75 3.5,0.75 3.5,2.9 ; 2.85,2.9 3.175,1.825 3.5,2.9 ; 4.12,-2.9 4.12,-0.75 4.77,-0.75 4.77,-2.9 ; 4.12,-2.9 4.77,-2.9 ; 4.12,-2.9 4.445,-1.825 4.77,-2.9 ; 4.12,2.9 4.77,2.9 ; 4.12,2.9 4.12,0.75 4.77,0.75 4.77,2.9 ; 4.12,2.9 4.445,1.825 4.77,2.9 ; 5.39,-2.9 5.39,-0.75 6.04,-0.75 6.04,-2.9 ; 5.39,-2.9 6.04,-2.9 ; 5.39,-2.9 5.715,-1.825 6.04,-2.9 ; 5.39,2.9 6.04,2.9 ; 5.39,2.9 5.39,0.75 6.04,0.75 6.04,2.9 ; 5.39,2.9 5.715,1.825 6.04,2.9
Mechanical 14:
  drawing of 253 lines, arcs and shapes, not listed
Mechanical 15:
  lines w0.05: -8.65,-0.9 -8.65,0.9 -6.775,0.9 -6.775,3.15 6.775,3.15 6.775,0.9 8.65,0.9 8.65,-0.9 6.775,-0.9 6.775,-3.15 -6.775,-3.15 -6.775,-0.9 -8.65,-0.9
3D body "HARWIN_M50-4301045.stp": height 4.6, standoff -0.9, extent -8.4,-2.397 8.4,2.398

## HARWIN_M50-4901045 [mm] "20 Contacts - Pitch 1.27mm - Dual Row SMT Polarized Straight Shrouded Header"
height 5.95
pads (20):
  rect 0.7x2.95 smd: 1(-5.715,-2.225) 2(-5.715,2.225) 3(-4.445,-2.225) 4(-4.445,2.225) 5(-3.175,-2.225) 6(-3.175,2.225) 7(-1.905,-2.225) 8(-1.905,2.225) 9(-0.635,-2.225) 10(-0.635,2.225) 11(0.635,-2.225) 12(0.635,2.225) 13(1.905,-2.225) 14(1.905,2.225) 15(3.175,-2.225) 16(3.175,2.225) 17(4.445,-2.225) 18(4.445,2.225) 19(5.715,-2.225) 20(5.715,2.225)
Top Overlay:
  circle w0.3: c-5.715,-4.3 r0.15
  lines w0.2: -7.95,-1.4 -7.17,-1.4 ; -7.95,-0.9 -6.67,-0.9 -7.17,-1.4 ; -7.95,0.9 -6.67,0.9 -7.17,1.4 ; -7.95,1.4 -7.17,1.4 ; -6.415,-2.825 -7.95,-2.825 -7.95,2.825 -6.415,2.825 ; -6.415,-2.225 -6.67,-2.225 ; -6.415,1.685 -6.67,1.685 ; -6.415,2.185 -7.17,2.185 ; 6.415,-2.825 7.95,-2.825 7.95,2.825 6.415,2.825 ; 6.415,-2.185 7.17,-2.185 ; 6.415,-1.685 6.67,-1.685 ; 6.415,1.685 6.67,1.685 ; 6.415,2.185 7.17,2.185 ; 7.95,-1.4 7.17,-1.4 ; 7.95,-0.9 6.67,-0.9 7.17,-1.4 ; 7.95,0.9 6.67,0.9 7.17,1.4 ; 7.95,1.4 7.17,1.4 ; -7.17,-1.4 -7.17,-2.225 -6.67,-2.225 ; -7.17,1.4 -7.17,2.185 ; -7.17,2.185 -6.67,1.685 ; -6.67,-2.225 -6.67,1.685 ; 6.67,-1.685 6.67,1.685 ; 6.67,-1.685 7.17,-2.185 ; 6.67,1.685 7.17,2.185 ; 7.17,-2.185 7.17,-1.4 ; 7.17,1.4 7.17,2.185
Mechanical 8:
  lines w0.1: -0.5,0 0,0 ; 0,-0.5 0,0 ; 0,0.5 0,0 ; 0.5,0 0,0 ; -6.065,-3.7 -6.065,-0.75 -5.365,-0.75 -5.365,-3.7 ; -6.065,-3.7 -5.365,-3.7 ; -6.065,-3.7 -5.715,-2.225 -5.365,-3.7 ; -6.065,3.7 -5.365,3.7 ; -6.065,3.7 -6.065,0.75 -5.365,0.75 -5.365,3.7 ; -6.065,3.7 -5.715,2.225 -5.365,3.7 ; -4.795,-3.7 -4.795,-0.75 -4.095,-0.75 -4.095,-3.7 ; -4.795,-3.7 -4.095,-3.7 ; -4.795,-3.7 -4.445,-2.225 -4.095,-3.7 ; -4.795,3.7 -4.095,3.7 ; -4.795,3.7 -4.795,0.75 -4.095,0.75 -4.095,3.7 ; -4.795,3.7 -4.445,2.225 -4.095,3.7 ; -3.525,-3.7 -3.525,-0.75 -2.825,-0.75 -2.825,-3.7 ; -3.525,-3.7 -2.825,-3.7 ; -3.525,-3.7 -3.175,-2.225 -2.825,-3.7 ; -3.525,3.7 -2.825,3.7 ; -3.525,3.7 -3.525,0.75 -2.825,0.75 -2.825,3.7 ; -3.525,3.7 -3.175,2.225 -2.825,3.7 ; -2.255,-3.7 -2.255,-0.75 -1.555,-0.75 -1.555,-3.7 ; -2.255,-3.7 -1.555,-3.7 ; -2.255,-3.7 -1.905,-2.225 -1.555,-3.7 ; -2.255,3.7 -1.555,3.7 ; -2.255,3.7 -2.255,0.75 -1.555,0.75 -1.555,3.7 ; -2.255,3.7 -1.905,2.225 -1.555,3.7 ; -0.985,-3.7 -0.985,-0.75 -0.285,-0.75 -0.285,-3.7 ; -0.985,-3.7 -0.285,-3.7 ; -0.985,-3.7 -0.635,-2.225 -0.285,-3.7 ; -0.985,3.7 -0.285,3.7 ; -0.985,3.7 -0.985,0.75 -0.285,0.75 -0.285,3.7 ; -0.985,3.7 -0.635,2.225 -0.285,3.7 ; 0.285,-3.7 0.285,-0.75 0.985,-0.75 0.985,-3.7 ; 0.285,-3.7 0.985,-3.7 ; 0.285,-3.7 0.635,-2.225 0.985,-3.7 ; 0.285,3.7 0.985,3.7 ; 0.285,3.7 0.285,0.75 0.985,0.75 0.985,3.7 ; 0.285,3.7 0.635,2.225 0.985,3.7 ; 1.555,-3.7 1.555,-0.75 2.255,-0.75 2.255,-3.7 ; 1.555,-3.7 2.255,-3.7 ; 1.555,-3.7 1.905,-2.225 2.255,-3.7 ; 1.555,3.7 2.255,3.7 ; 1.555,3.7 1.555,0.75 2.255,0.75 2.255,3.7 ; 1.555,3.7 1.905,2.225 2.255,3.7 ; 2.825,-3.7 2.825,-0.75 3.525,-0.75 3.525,-3.7 ; 2.825,-3.7 3.525,-3.7 ; 2.825,-3.7 3.175,-2.225 3.525,-3.7 ; 2.825,3.7 3.525,3.7 ; 2.825,3.7 2.825,0.75 3.525,0.75 3.525,3.7 ; 2.825,3.7 3.175,2.225 3.525,3.7 ; 4.095,-3.7 4.095,-0.75 4.795,-0.75 4.795,-3.7 ; 4.095,-3.7 4.795,-3.7 ; 4.095,-3.7 4.445,-2.225 4.795,-3.7 ; 4.095,3.7 4.795,3.7 ; 4.095,3.7 4.095,0.75 4.795,0.75 4.795,3.7 ; 4.095,3.7 4.445,2.225 4.795,3.7 ; 5.365,-3.7 5.365,-0.75 6.065,-0.75 6.065,-3.7 ; 5.365,-3.7 6.065,-3.7 ; 5.365,-3.7 5.715,-2.225 6.065,-3.7 ; 5.365,3.7 6.065,3.7 ; 5.365,3.7 5.365,0.75 6.065,0.75 6.065,3.7 ; 5.365,3.7 5.715,2.225 6.065,3.7
Mechanical 14:
  circle w0.3: c-5.715,-4.3 r0.15
  lines w0.1: -7.95,-1.4 -7.17,-1.4 ; -7.95,-0.9 -6.67,-0.9 -7.17,-1.4 ; -7.95,0.9 -6.67,0.9 -7.17,1.4 ; -7.95,1.4 -7.17,1.4 ; -4.57,-2.185 7.17,-2.185 ; 7.95,-1.4 7.17,-1.4 ; 7.95,-0.9 6.67,-0.9 7.17,-1.4 ; 7.95,0.9 6.67,0.9 7.17,1.4 ; 7.95,1.4 7.17,1.4 ; -7.17,-1.4 -7.17,-2.225 -6.67,-2.225 ; -7.17,1.4 -7.17,2.185 ; -7.17,2.185 7.17,2.185 ; -7.17,2.185 -6.67,1.685 ; -6.67,-2.225 -6.67,1.685 ; -6.67,-2.225 -4.57,-2.225 -4.57,-1.685 6.67,-1.685 ; -6.67,1.685 6.67,1.685 ; 6.67,-1.685 6.67,1.685 ; 6.67,-1.685 7.17,-2.185 ; 6.67,1.685 7.17,2.185 ; 7.17,-2.185 7.17,-1.4 ; 7.17,1.4 7.17,2.185 ; -7.95,-2.825 7.95,-2.825 7.95,2.825 -7.95,2.825 -7.95,-2.825
Mechanical 15:
  lines w0.05: -8.2,-3.95 8.2,-3.95 8.2,3.95 -8.2,3.95 -8.2,-3.95
3D body "HARWIN_M50-4901045.stp": height 6.1, standoff 0, extent -7.95,-3.25 7.95,3.25

## HARWIN_S1751-46 [mm] "Surface Mount PCB Test Point"
height 2
pads (1):
  rect 3.45x1.85 smd: 1(0,0)
Mechanical 8:
  lines w0.05: -0.5,0 0,0 ; 0,-0.5 0,0 ; 0,0.5 0,0 ; 0.5,0 0,0
Mechanical 14:
  lines w0.1: -1.625,-0.625 -0.5,-0.625 -0.5,-0.825 ; 0.5,-0.825 0.5,-0.625 1.625,-0.625 ; -1.625,-0.825 -1.625,0.825 1.625,0.825 1.625,-0.825 -1.625,-0.825
Mechanical 15:
  lines w0.05: -1.975,-1.175 1.975,-1.175 1.975,1.175 -1.975,1.175 -1.975,-1.175
3D body "HARWIN_S1751-46.stp": height 2, standoff 0, extent -1.625,-0.825 1.625,0.825

## HARWIN_S2761-46R [mm] "1608 Metric (0603 Imperial) L 1.6mm x W 0.8mm H 1.15mm Surface Mount PCB Test Point"
height 1.15
pads (1):
  rect 1.8x1 smd: 1(0,0)
Mechanical 8:
  lines w0.1: -0.5,0 0,0 ; 0,-0.5 0,0 ; 0,0.5 0,0 ; 0.5,0 0,0 ; -0.9,-0.5 -0.9,0.5 0.9,0.5 0.9,-0.5 -0.9,-0.5
Mechanical 14:
  lines w0.1: -0.8,-0.4 -0.8,0.4 0.8,0.4 0.8,-0.4 -0.8,-0.4
Mechanical 15:
  lines w0.05: -1.15,-0.75 -1.15,0.75 1.15,0.75 1.15,-0.75 -1.15,-0.75
3D body "HARWING_S2761-46R.stp": height 1.18, standoff 0, extent -0.8,-0.4 0.8,0.4

## HARWIN_S9101-46R [mm] "SMT PC Board Socket for 1.1mm to 1.8mm Mating Pin"
height 0.2
pads (5):
  round 0.5 smd: 1(-1.925,-1.75) 1(-1.925,1.75) 1(1.925,-1.75) 1(1.925,1.75)
  round 1 hole 4 unplated mask+1.5: MEC(0,0)
Top Layer:
  region: -2.21,-0.8 -2.13,-0.993 -1.92,-1.355 -1.65,-1.673 -1.328,-1.939 -1.15,-2.049 -1.15,-2.7 -2.7,-2.7 -2.7,-0.8
  region: 2.21,0.8 2.13,0.993 1.92,1.355 1.65,1.673 1.328,1.939 1.15,2.049 1.15,2.7 2.7,2.7 2.7,0.8
  region: 2.7,-0.8 2.21,-0.8 2.13,-0.993 1.92,-1.355 1.65,-1.673 1.328,-1.939 1.15,-2.049 1.15,-2.7 2.7,-2.7
  region: -2.7,0.8 -2.21,0.8 -2.13,0.993 -1.92,1.355 -1.65,1.673 -1.328,1.939 -1.15,2.049 -1.15,2.7 -2.7,2.7
Top Overlay:
  lines w0.2: -2.35,-0.5 -2.35,0.5 ; 2.35,-0.5 2.35,0.5
Mechanical 8:
  circle w0.1: c0,0 r2
  lines w0.1: -2.425,-1.75 -1.925,-1.75 ; -2.425,1.75 -1.925,1.75 ; -1.925,-2.25 -1.925,-1.75 ; -1.925,-1.25 -1.925,-1.75 ; -1.925,1.25 -1.925,1.75 ; -1.925,2.25 -1.925,1.75 ; -1.425,-1.75 -1.925,-1.75 ; -1.425,1.75 -1.925,1.75 ; -0.5,0 0,0 ; 0,-0.5 0,0 ; 0,0.5 0,0 ; 0.5,0 0,0 ; 1.425,-1.75 1.925,-1.75 ; 1.425,1.75 1.925,1.75 ; 1.925,-2.25 1.925,-1.75 ; 1.925,-1.25 1.925,-1.75 ; 1.925,1.25 1.925,1.75 ; 1.925,2.25 1.925,1.75 ; 2.425,-1.75 1.925,-1.75 ; 2.425,1.75 1.925,1.75 ; -2.7,-2.7 -1.15,-2.7 -1.15,-2.049 cw(c0,0) -2.21,-0.8 -2.7,-0.8 -2.7,-2.7 ; -2.7,0.8 -2.21,0.8 cw(c0,0) -1.15,2.049 -1.15,2.7 -2.7,2.7 -2.7,0.8 ; 1.15,-2.7 2.7,-2.7 2.7,-0.8 2.21,-0.8 cw(c0,0) 1.15,-2.049 1.15,-2.7 ; 1.15,2.049 cw(c0,0) 2.21,0.8 2.7,0.8 2.7,2.7 1.15,2.7 1.15,2.049
Mechanical 14:
  circle w0.1: c0,0 r1
  lines w0.1: -0.937,-0.35 0.937,-0.35 ; -0.937,0.351 0.937,0.351 ; -2.5,-2 cw(c-2.5,-2.175) -2.325,-2.175 -2.325,-2.25 ccw(c-2.075,-2.25) -2.075,-2.5 -1.6,-2.5 ccw(c-1.6,-2.25) -1.35,-2.25 -1.35,-1.35 cw(c-1.175,-1.35) -1.175,-1.175 cw(c-1.24,-1.384) -1.024,-1.348 cw(c-1.642,-1.522) -1,-1.519 -1,-1.573 1,-1.573 1,-1.519 cw(c1.642,-1.522) 1.024,-1.348 cw(c1.24,-1.384) 1.175,-1.175 cw(c1.175,-1.35) 1.35,-1.35 1.35,-2.25 ccw(c1.6,-2.25) 1.6,-2.5 2.075,-2.5 ccw(c2.075,-2.25) 2.325,-2.25 2.325,-2.175 cw(c2.5,-2.175) 2.5,-2 2.5,-1 cw(c2.5,-0.75) 2.25,-0.75 2.25,0.75 cw(c2.5,0.75) 2.5,1 2.5,2 cw(c2.5,2.175) 2.325,2.175 2.325,2.25 ccw(c2.075,2.25) 2.075,2.5 1.6,2.5 ccw(c1.6,2.25) 1.35,2.25 1.35,1.35 cw(c1.175,1.35) 1.175,1.175 cw(c1.24,1.384) 1.024,1.348 cw(c1.642,1.522) 1,1.519 1,1.573 -1,1.573 -1,1.519 cw(c-1.642,1.522) -1.024,1.348 cw(c-1.24,1.384) -1.175,1.175 cw(c-1.175,1.35) -1.35,1.35 -1.35,2.25 ccw(c-1.6,2.25) -1.6,2.5 -2.075,2.5 ccw(c-2.075,2.25) -2.325,2.25 -2.325,2.175 cw(c-2.5,2.175) -2.5,2 -2.5,1 cw(c-2.5,0.75) -2.25,0.75 -2.25,-0.75 cw(c-2.5,-0.75) -2.5,-1 -2.5,-2
Mechanical 15:
  lines w0.05: -2.95,-2.95 2.95,-2.95 2.95,2.95 -2.95,2.95 -2.95,-2.95
3D body "HARWIN_S9101-46R.stp": height 0.2, standoff -4.3, extent -2.5,-2.5 2.5,2.5